# EAGLE library part IV-12 (library RalimTek)
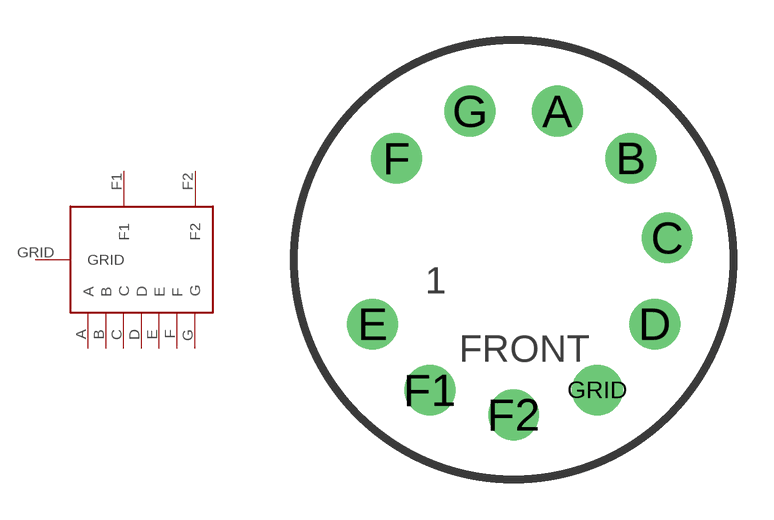
[diagram p35: symbol with the pads of NIXIE-11; footprint NIXIE-11]

Designator prefix -

## IV-12  [NIXIE-11]
A  A
B  B
C  C
D  D
E  E
F  F
F1  F1
F2  F2
G  G
GRID  GRID

## Footprint NIXIE-11 (pad centres in mm)
Eagle SCR autogenerated 11 pin Nixie socket
drill 1.26: A 1.625,5.533; B 4.358,3.776; C 5.708,0.821; D 5.246,-2.396; E -5.246,-2.396; F -4.358,3.776; F1 -3.118,-4.851; F2 0,-5.767; G -1.625,5.533; GRID 3.118,-4.851